# Altium integrated library SecondLib.IntLib: 6 symbols
Pins are listed as number, name and electrical type; pins without a type are passive.

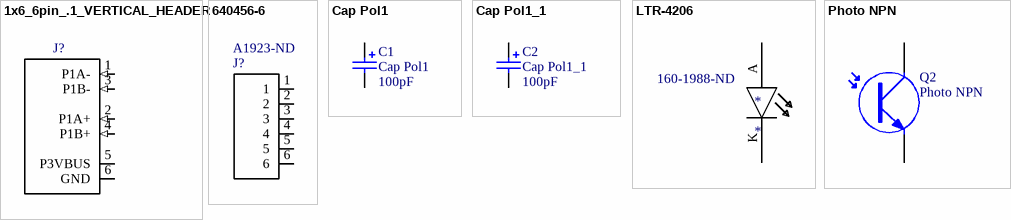
[diagram p0: symbols 1x6_6pin_.1_VERTICAL_HEADER to Photo NPN]

## 1x6_6pin_.1_VERTICAL_HEADER
designator J?, comment 640456-6  (value not drawn)
06P MTA100 HDR ASSY F/L SQ STR; Number_of_Positions: 6; Product_Type: Connector; Centerline_Pitch: 2.54 mm[.1 in]; MF: TE Connectivity; MP: 640456-6; Package: None; TE_purchase_URL: https://www.te.com/usa-en/product-640456-6.html?te_bu=Cor&te_type=disp&te_campaign=seda_glo_cor-seda-global-disp-prtnr-fy19-seda-model-bom-cta_sma-317_1&elqCampaignId=32493; Price: None; EU_RoHS_Compliance: Compliant; SnapEDA_Link: https://www.snapeda.com/parts/640456-6/TE%20Connectivity%20AMP%20Connectors/view-part/?ref=snap; Availability: Unavailable; Value: *
footprint TE_640456-6
pins: 1 P1A- (in), 2 P1A+ (in), 3 P1B- (in), 4 P1B+ (in), 5 P3VBUS (power), 6 GND (power)

## 640456-6
designator J?  Supplier Part Number 1: A1923-ND  (hidden comment: 640456-6)
06P MTA100 HDR ASSY F/L SQ STR; Number_of_Positions: 6; Product_Type: Connector; Centerline_Pitch: 2.54 mm[.1 in]; MF: TE Connectivity; MP: 640456-6; Package: None; TE_purchase_URL: https://www.te.com/usa-en/product-640456-6.html?te_bu=Cor&te_type=disp&te_campaign=seda_glo_cor-seda-global-disp-prtnr-fy19-seda-model-bom-cta_sma-317_1&elqCampaignId=32493; Price: None; EU_RoHS_Compliance: Compliant; SnapEDA_Link: https://www.snapeda.com/parts/640456-6/TE%20Connectivity%20AMP%20Connectors/view-part/?ref=snap; Availability: Unavailable; Value: *; Supplier 1: Digi-Key
footprint TE_640456-6
pins: 1, 2, 3, 4, 5, 6

## Cap Pol1
designator C1  value 100pF
Polarized Capacitor (Radial); Published: 8-Jun-2000; LatestRevisionDate: 17-Jul-2002; LatestRevisionNote: Re-released for DXP Platform.; PackageReference: RB7.6-15; Publisher: Altium Limited; PackageDescription: Polarized Capacitor (Radial); 2 Leads
simulation model CAP (Capacitor)
signal-integrity model Cap Pol
footprint PCAP7343-43_Keme
pins: 1, 2
1 alternate drawing of the same symbol

## Cap Pol1_1
designator C2  value 100pF
Polarized Capacitor 805; Published: 8-Jun-2000; LatestRevisionDate: 17-Jul-2002; LatestRevisionNote: Re-released for DXP Platform.; PackageReference: RB7.6-15; Publisher: Altium Limited; PackageDescription: Polarized Capacitor (Radial); 2 Leads
footprint RB7.6-15 (Polarized Capacitor (Radial); 2 Leads)
simulation model CAP (Capacitor)
signal-integrity model Cap Pol
footprint 805 - CAP Poly (805 package)
pins: 1, 2
1 alternate drawing of the same symbol

## LTR-4206
designator *  Supplier Part Number 1: 160-1988-ND
Supplier 1: Digi-Key
footprint *LED3MM_LED
pins: A, K

## Photo NPN
designator Q2
NPN Phototransistor; Published: 24-Mar-1999; LatestRevisionDate: 17-Jul-2002; LatestRevisionNote: Re-released for DXP Platform.; PackageReference: TO-220_A; Publisher: Altium Limited; Code_JEDEC: TO-220-AC
footprint *LED3MM_Transistor
pins: C, E